# EAGLE library part S6B-PH-* (library jst-pa)
Wire-to-Board 2.0mm pitch side mount connector Source: http://www.jst-mfg.com/product/pdf/jpn/PH.pdf http://www.jst-mfg.com/product/detail.php?series=199
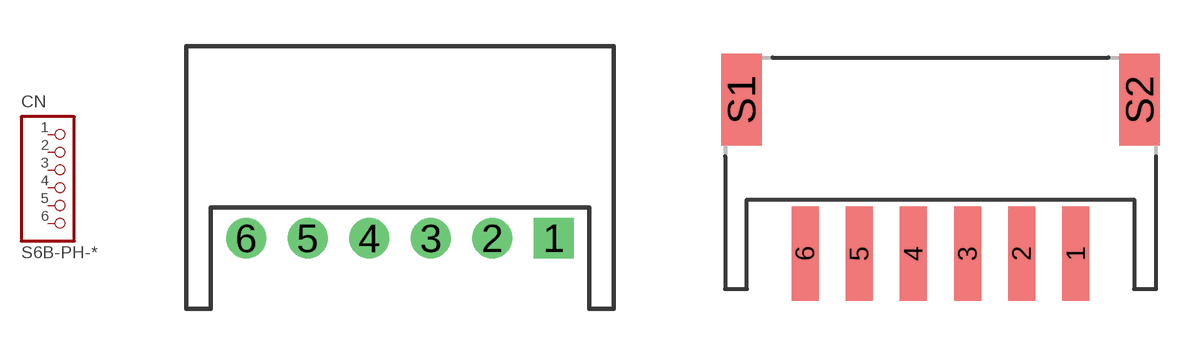
[diagram p11: symbol with the pads of S6B-PH-K-S; footprints S6B-PH-K-S, S6B-PH-SM4-TB]

Designator prefix CN

## S6B-PH-K-S  [S6B-PH-K-S]
1  1  pas
2  2  pas
3  3  pas
4  4  pas
5  5  pas
6  6  pas

## S6B-PH-SM4-TB  [S6B-PH-SM4-TB]
Pads as for S6B-PH-K-S

## Footprint S6B-PH-K-S (pad centres in mm)
drill 0.8 square: 1 5,0
drill 0.8: 2 3,0; 3 1,0; 4 -1,0; 5 -3,0; 6 -5,0

## Footprint S6B-PH-SM4-TB (pad centres in mm)
smd 1 x 3.5: 1 5,-1; 2 3,-1; 3 1,-1; 4 -1,-1; 5 -3,-1; 6 -5,-1
smd 1.5 x 3.4: S1 -7.35,4.7; S2 7.35,4.7